# EAGLE library part LSM303D (library Triggy)
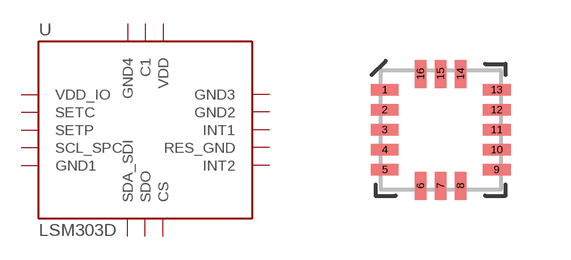
[diagram p0: symbol with the pads of LGA-16; footprint LGA-16]

Designator prefix -

## LSM303D  [LGA-16]
1  VDD_IO
2  SETC
3  SETP
4  SCL_SPC
5  GND1
6  SDA_SDI
7  SDO
8  CS
9  INT2
10  RES_GND
11  INT1
12  GND2
13  GND3
14  VDD
15  C1
16  GND4

## Footprint LGA-16 (pad centres in mm)
smd 0.7 x 0.28: 1 -1.3,1.2; 2 -1.3,0.7; 3 -1.3,0.2; 4 -1.3,-0.3; 5 -1.3,-0.8; 9 1.5,-0.8; 10 1.5,-0.3; 11 1.5,0.2; 12 1.5,0.7; 13 1.5,1.2
smd 0.28 x 0.7: 6 -0.4,-1.2; 7 0.1,-1.2; 8 0.6,-1.2; 14 0.6,1.6; 15 0.1,1.6; 16 -0.4,1.6